# Altium footprint library bmi270.PcbLib: 1 footprints
Each footprint in its own frame and in the unit in brackets; x right, y up, seen from the top. Pads: shape width x height; smd on the part's side, far side on the other; paste and mask are expansions set on the pad; w line width, h text height; cw(c..) or ccw(c..) is an arc to the next point about the centre after c.
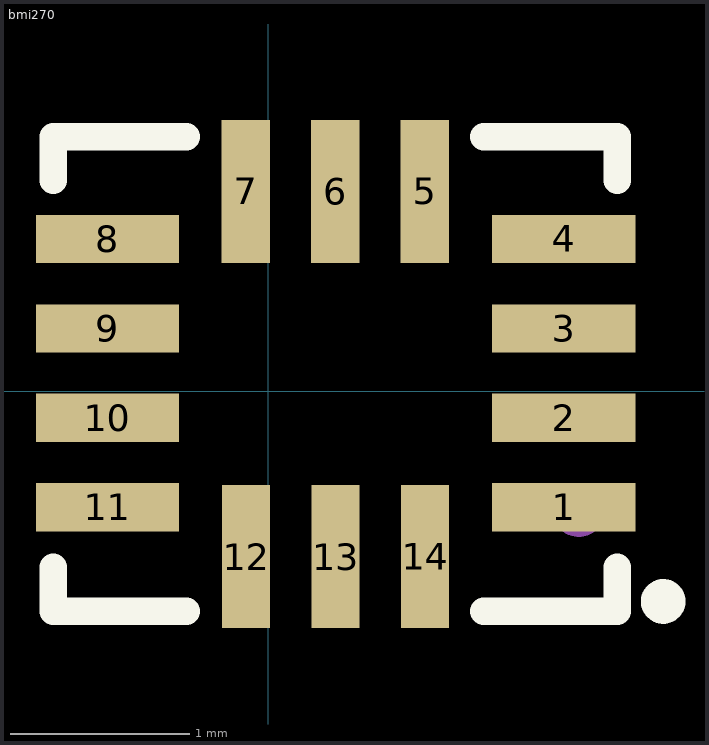
[diagram p0: the footprint, top view; thin cyan lines are the x and y axes]

## bmi270 [mm]
pads (14):
  rect 0.8x0.27 smd paste+0 mask+0.051: 1(1.65,-0.65) 2(1.65,-0.15) 3(1.65,0.35) 4(1.65,0.85) 8(-0.9,0.85) 9(-0.9,0.35) 10(-0.9,-0.15) 11(-0.9,-0.65)
  rect 0.27x0.8 smd paste+0 mask+0.051: 5(0.873,1.116) 6(0.373,1.116) 7(-0.127,1.116) 12(-0.125,-0.925) 13(0.375,-0.925) 14(0.875,-0.925)
Top Overlay:
  circle w0.15: c2.206,-1.175 r0.05
  lines w0.152: -1.203,-0.985 -1.203,-1.23 -0.457,-1.23 ; -1.203,1.176 -1.203,1.422 -0.457,1.422 ; 1.204,-1.23 1.949,-1.23 1.949,-0.985 ; 1.204,1.422 1.949,1.422 1.949,1.176
Mechanical 15:
  circle w0.15: c1.733,-0.664 r0.075
3D body "LGA_14p.step": height 0.85, standoff -0.01, extent -1.125,-1.15 1.875,1.35